# EAGLE library part U1-IMU-LSM (library custom)
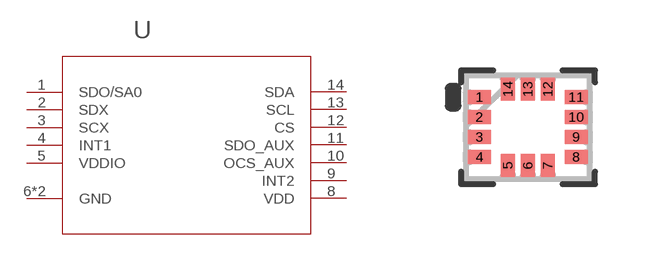
[diagram p0: symbol with the pads of U-LSM6DS0; footprint U-LSM6DS0]

Designator prefix U

## U1-IMU-LSMLSM6DSOXTR6-AXIS (CREATOR: XINLE; DIST: Digikey; DISTPN: 497-18367-1-ND)  [U-LSM6DS0]
1  SDO/SA0  out
2  SDX
3  SCX
4  INT1  in
5  VDDIO  pwr
6  GND  pas
7  GND  pas
8  VDD  pwr
9  INT2  in
10  OCS_AUX  pas
11  SDO_AUX  pas
12  CS  pas
13  SCL  pas
14  SDA  in

## Footprint U-LSM6DS0 (pad centres in mm)
smd 0.575 x 0.35: 1 -1.21,0.75; 2 -1.21,0.25; 3 -1.21,-0.25; 4 -1.21,-0.75; 8 1.21,-0.75; 9 1.21,-0.25; 10 1.21,0.25; 11 1.21,0.75
smd 0.35 x 0.575: 5 -0.5,-0.956; 6 0,-0.956; 7 0.5,-0.956; 12 0.5,0.956; 13 0,0.956; 14 -0.5,0.956